# Altium footprint library Cap.PcbLib: 6 footprints
Each footprint in its own frame and in the unit in brackets; x right, y up, seen from the top. Pads: shape width x height; smd on the part's side, far side on the other; paste and mask are expansions set on the pad; w line width, h text height; cw(c..) or ccw(c..) is an arc to the next point about the centre after c.
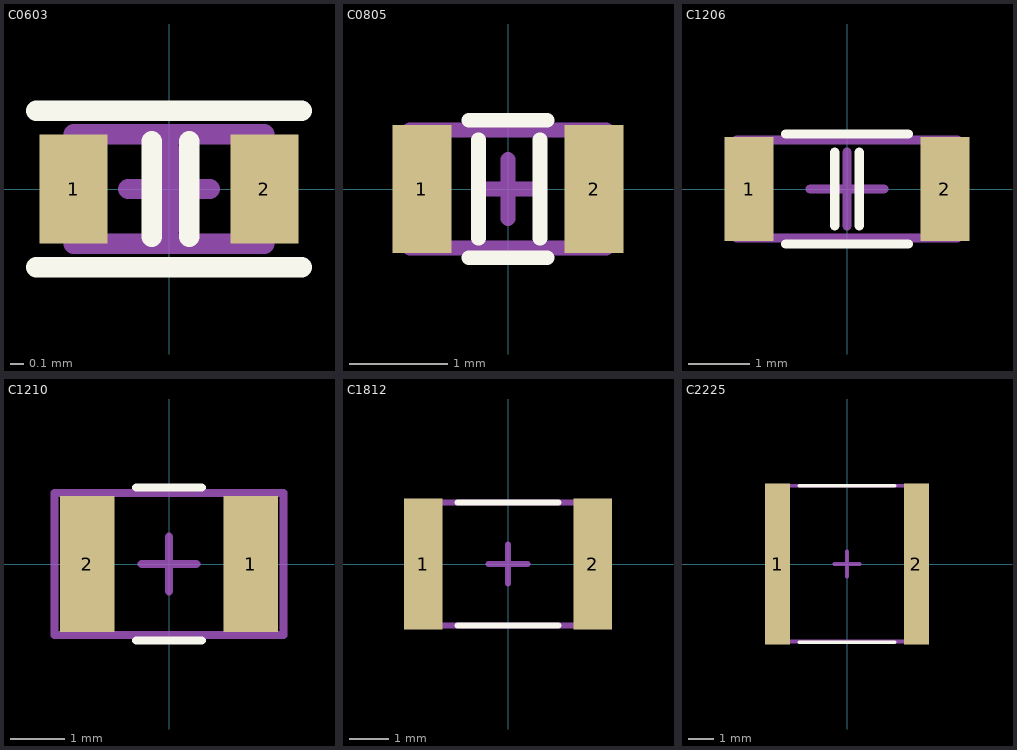
[diagram p0: the footprints below, top view; thin cyan lines are the x and y axes]

## C0603 [mm]
pads (2):
  rect 0.5x0.8 smd: 1(-0.7,0) 2(0.7,0)
Top Overlay:
  lines w0.15: -0.975,-0.575 0.975,-0.575 ; -0.975,0.575 0.975,0.575 ; -0.127,-0.35 -0.127,0.35 ; 0.148,-0.35 0.148,0.35
Top Courtyard:
  lines w0.15: -0.3,0 0.3,0 ; 0,-0.3 0,0.3 ; -0.7,-0.4 0.7,-0.4 0.7,0.4 -0.7,0.4 -0.7,-0.4
3D body: height 0.5, standoff 0, extent -0.8,-0.4 -0.4,0.4
3D body: height 0.5, standoff 0, extent -0.4,-0.4 0.4,0.4
3D body: height 0.5, standoff 0, extent 0.4,-0.4 0.8,0.4

## C0805 [mm]
pads (2):
  rect 0.6x1.3 smd: 1(-0.875,0) 2(0.875,0)
Top Overlay:
  lines w0.15: -0.4,-0.7 0.4,-0.7 ; -0.4,0.7 0.4,0.7 ; -0.3,-0.5 -0.3,0.5 ; 0.325,-0.5 0.325,0.5
Top Courtyard:
  lines w0.15: -0.3,0 0.3,0 ; 0,-0.3 0,0.3 ; -1,-0.6 1,-0.6 1,0.6 -1,0.6 -1,-0.6
3D body: height 0.8, standoff 0, extent -1,-0.6 -0.4,0.6
3D body: height 0.8, standoff 0, extent -0.4,-0.6 0.4,0.6
3D body: height 0.8, standoff 0, extent 0.4,-0.6 1,0.6

## C1206 [mm]
pads (2):
  rect 0.8x1.7 smd: 1(-1.6,0) 2(1.6,0)
Top Overlay:
  lines w0.15: -1,-0.9 1,-0.9 ; -1,0.9 1,0.9 ; -0.2,-0.6 -0.2,0.6 ; 0.2,-0.6 0.2,0.6
Top Courtyard:
  lines w0.15: -0.6,0 0.6,0 ; 0,-0.6 0,0.6 ; -1.8,-0.8 -1.8,0.8 1.8,0.8 1.8,-0.8 -1.8,-0.8
3D body: height 0.8, standoff 0, extent -1.7,-0.8 -0.9,0.8
3D body: height 0.8, standoff 0, extent -0.9,-0.8 0.9,0.8
3D body: height 0.8, standoff 0, extent 0.9,-0.8 1.7,0.8

## C1210 [mm]
pads (2):
  rect 1x2.5 smd: 1(1.5,0) 2(-1.5,0)
Top Overlay:
  lines w0.15: -0.6,-1.4 0.6,-1.4 ; -0.6,1.4 0.6,1.4
Top Courtyard:
  lines w0.15: -0.5,0 0.5,0 ; 0,-0.5 0,0.5 ; -2.1,-1.3 2.1,-1.3 2.1,1.3 -2.1,1.3 -2.1,-1.3
3D body: height 1.6, standoff 0, extent 0.9,-1.3 2,1.3
3D body: height 1.6, standoff 0, extent -0.9,-1.3 0.9,1.3
3D body: height 1.6, standoff 0, extent -2,-1.3 -0.9,1.3

## C1812 [mm]
pads (2):
  rect 1x3.35 smd: 1(-2.175,0) 2(2.175,0)
Top Overlay:
  lines w0.15: -1.3,-1.575 1.3,-1.575 ; -1.3,1.575 1.3,1.575
Top Courtyard:
  lines w0.15: -0.5,0 0.5,0 ; 0,-0.5 0,0.5 ; -2.3,-1.575 2.3,-1.575 2.3,1.575 -2.3,1.575 -2.3,-1.575
3D body "C1812C.step": height 1, standoff 0, extent -2.25,-1.6 2.25,1.6

## C2225 [mm]
pads (2):
  rect 1x6.45 smd: 1(-2.775,0) 2(2.775,0)
Top Overlay:
  lines w0.15: -1.9,-3.125 1.9,-3.125 ; -1.9,3.125 1.9,3.125
Top Courtyard:
  lines w0.15: -0.5,0 0.5,0 ; 0,-0.5 0,0.5 ; -2.9,-3.1 2.9,-3.1 2.9,3.125 -2.9,3.125 -2.9,-3.1
3D body "C2225C.step": height 2, standoff 0, extent -2.85,-3.15 2.85,3.15